# Altium footprint library LDO.PcbLib: 100 footprints (part 6 of 7)
Each footprint in its own frame and in the unit in brackets; x right, y up, seen from the top. Pads: shape width x height; smd on the part's side, far side on the other; paste and mask are expansions set on the pad; w line width, h text height; cw(c..) or ccw(c..) is an arc to the next point about the centre after c.
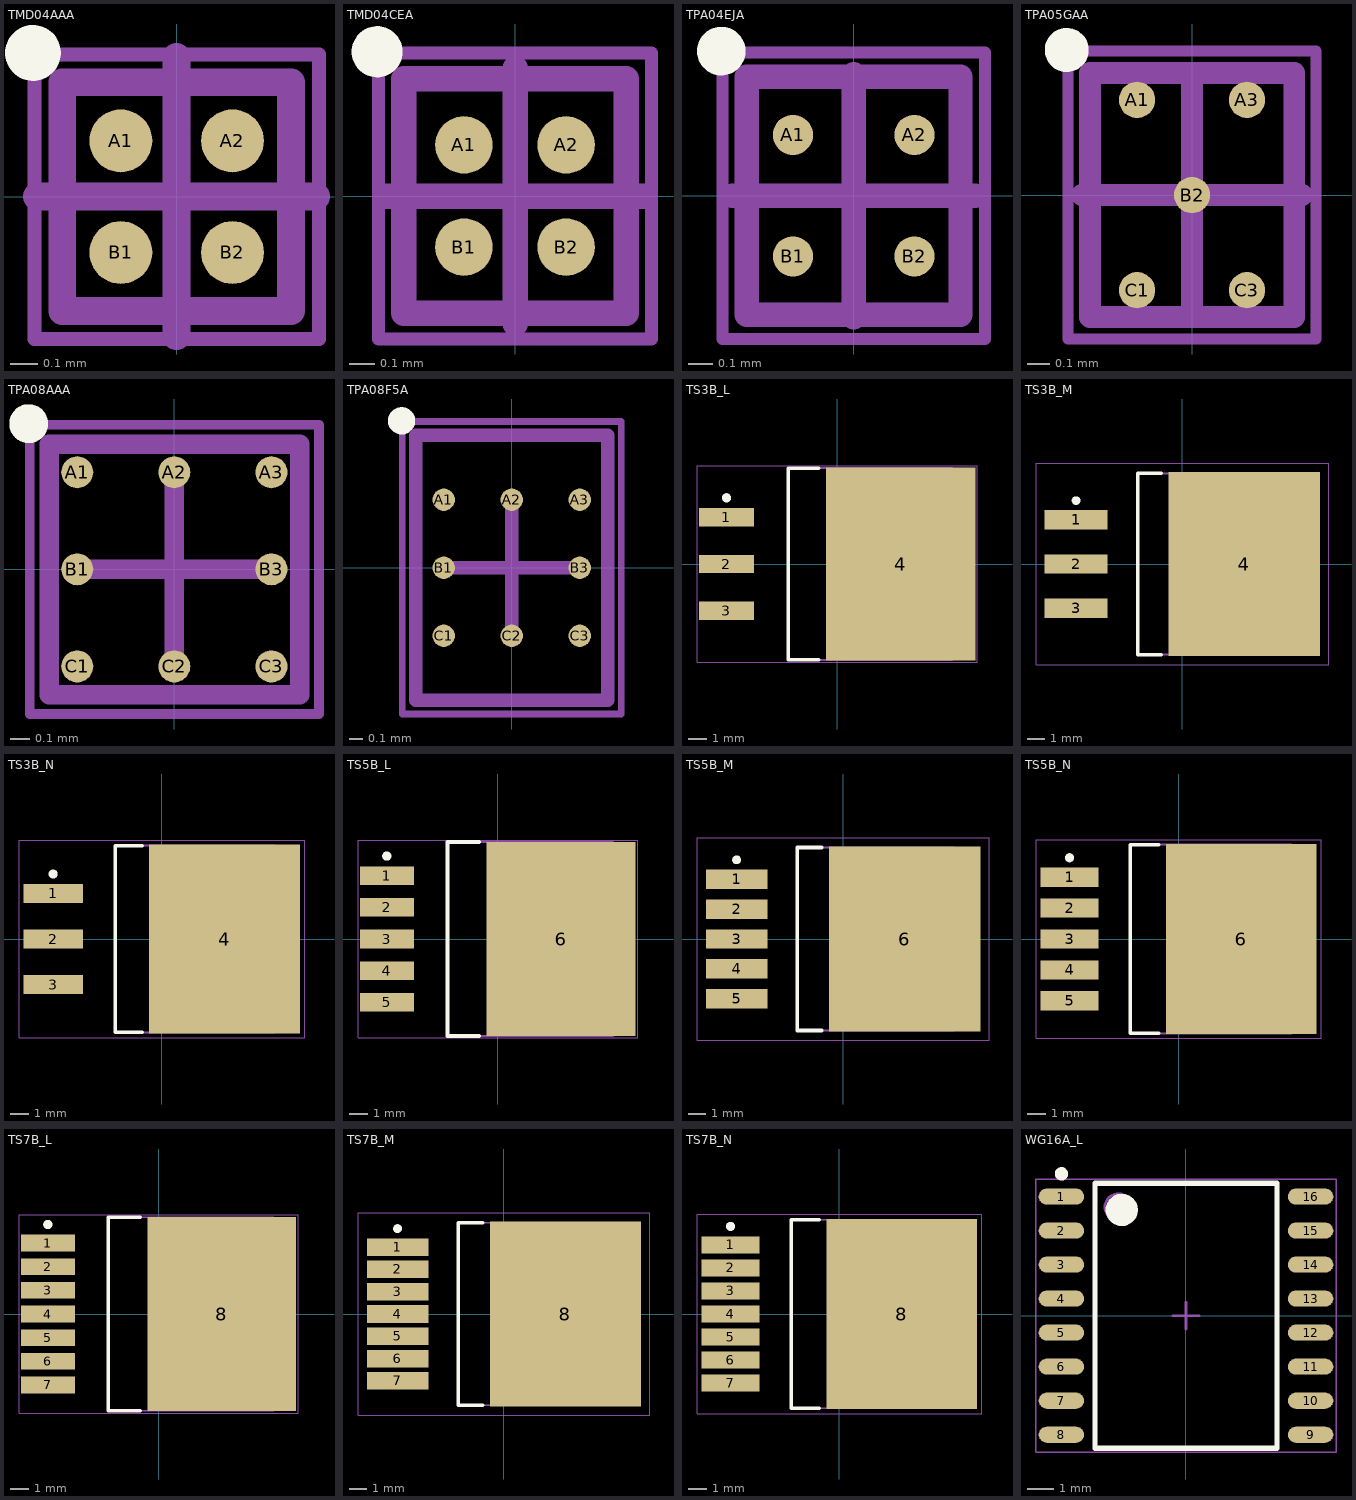
[diagram p5: the footprints below, top view; thin cyan lines are the x and y axes]

## TMD04AAA [mm] "Micro SMD, 4-Leads, Body 0.82x0.82mm, Pitch 0.4mm, NSC Recommended"
height 0.68
pads (4):
  round 0.225 smd paste-0.112 mask+0.05: A1(-0.2,0.2) A2(0.2,0.2) B1(-0.2,-0.2) B2(0.2,-0.2)
Top Overlay:
  circle w0.1: c-0.515,0.515 r0.05
Top Paste:
  circle w0.05: c-0.125,0.275 r0.025
  circle w0.05: c-0.275,0.125 r0.025
  circle w0.05: c-0.275,0.275 r0.025
  circle w0.05: c-0.125,0.125 r0.025
  circle w0.05: c0.275,0.275 r0.025
  circle w0.05: c0.125,0.125 r0.025
  circle w0.05: c0.125,0.275 r0.025
  circle w0.05: c0.275,0.125 r0.025
  circle w0.05: c-0.125,-0.125 r0.025
  circle w0.05: c-0.275,-0.275 r0.025
  circle w0.05: c-0.275,-0.125 r0.025
  circle w0.05: c-0.125,-0.275 r0.025
  circle w0.05: c0.275,-0.125 r0.025
  circle w0.05: c0.125,-0.275 r0.025
  circle w0.05: c0.125,-0.125 r0.025
  circle w0.05: c0.275,-0.275 r0.025
  rectangle: -0.275,0.075 -0.125,0.125
  region: -0.325,0.275 -0.325,0.125 -0.275,0.125 -0.275,0.275
  region: -0.125,0.325 -0.275,0.325 -0.275,0.275 -0.125,0.275
  region: -0.075,0.125 -0.075,0.275 -0.125,0.275 -0.125,0.125
  region: -0.275,0.275 -0.275,0.125 -0.125,0.125 -0.125,0.275
  rectangle: 0.125,0.075 0.275,0.125
  region: 0.075,0.275 0.075,0.125 0.125,0.125 0.125,0.275
  region: 0.275,0.325 0.125,0.325 0.125,0.275 0.275,0.275
  region: 0.325,0.125 0.325,0.275 0.275,0.275 0.275,0.125
  region: 0.125,0.275 0.125,0.125 0.275,0.125 0.275,0.275
  rectangle: -0.275,-0.325 -0.125,-0.275
  region: -0.325,-0.125 -0.325,-0.275 -0.275,-0.275 -0.275,-0.125
  region: -0.125,-0.075 -0.275,-0.075 -0.275,-0.125 -0.125,-0.125
  region: -0.075,-0.275 -0.075,-0.125 -0.125,-0.125 -0.125,-0.275
  region: -0.275,-0.125 -0.275,-0.275 -0.125,-0.275 -0.125,-0.125
  rectangle: 0.125,-0.325 0.275,-0.275
  region: 0.075,-0.125 0.075,-0.275 0.125,-0.275 0.125,-0.125
  region: 0.275,-0.075 0.125,-0.075 0.125,-0.125 0.275,-0.125
  region: 0.325,-0.275 0.325,-0.125 0.275,-0.125 0.275,-0.275
  region: 0.125,-0.125 0.125,-0.275 0.275,-0.275 0.275,-0.125
Mechanical 13:
  lines w0.1: -0.41,-0.41 -0.41,0.41 0.41,0.41 0.41,-0.41 -0.41,-0.41
Mechanical 15:
  lines w0.05: -0.51,-0.51 -0.51,0.51 0.51,0.51 0.51,-0.51 -0.51,-0.51
  lines w0.1: -0.5,0 0.5,0 ; 0,-0.5 0,0.5
3D body: height 0.68, standoff 0, extent -0.41,-0.41 0.41,0.41

## TMD04CEA [mm] "Micro SMD, 4-Leads, Body 0.92x0.87mm, Pitch 0.4mm, NSC Recommended"
height 0.68
pads (4):
  round 0.225 smd paste-0.112 mask+0.05: A1(-0.2,0.2) A2(0.2,0.2) B1(-0.2,-0.2) B2(0.2,-0.2)
Top Overlay:
  circle w0.1: c-0.54,0.565 r0.05
Top Paste:
  circle w0.05: c0.275,-0.275 r0.025
  circle w0.05: c0.125,-0.125 r0.025
  circle w0.05: c0.125,-0.275 r0.025
  circle w0.05: c0.275,-0.125 r0.025
  circle w0.05: c-0.125,-0.275 r0.025
  circle w0.05: c-0.275,-0.125 r0.025
  circle w0.05: c-0.275,-0.275 r0.025
  circle w0.05: c-0.125,-0.125 r0.025
  circle w0.05: c0.275,0.125 r0.025
  circle w0.05: c0.125,0.275 r0.025
  circle w0.05: c0.125,0.125 r0.025
  circle w0.05: c0.275,0.275 r0.025
  circle w0.05: c-0.125,0.125 r0.025
  circle w0.05: c-0.275,0.275 r0.025
  circle w0.05: c-0.275,0.125 r0.025
  circle w0.05: c-0.125,0.275 r0.025
  region: 0.125,-0.125 0.125,-0.275 0.275,-0.275 0.275,-0.125
  region: 0.325,-0.275 0.325,-0.125 0.275,-0.125 0.275,-0.275
  region: 0.275,-0.075 0.125,-0.075 0.125,-0.125 0.275,-0.125
  region: 0.075,-0.125 0.075,-0.275 0.125,-0.275 0.125,-0.125
  rectangle: 0.125,-0.325 0.275,-0.275
  region: -0.275,-0.125 -0.275,-0.275 -0.125,-0.275 -0.125,-0.125
  region: -0.075,-0.275 -0.075,-0.125 -0.125,-0.125 -0.125,-0.275
  region: -0.125,-0.075 -0.275,-0.075 -0.275,-0.125 -0.125,-0.125
  region: -0.325,-0.125 -0.325,-0.275 -0.275,-0.275 -0.275,-0.125
  rectangle: -0.275,-0.325 -0.125,-0.275
  region: 0.125,0.275 0.125,0.125 0.275,0.125 0.275,0.275
  region: 0.325,0.125 0.325,0.275 0.275,0.275 0.275,0.125
  region: 0.275,0.325 0.125,0.325 0.125,0.275 0.275,0.275
  region: 0.075,0.275 0.075,0.125 0.125,0.125 0.125,0.275
  rectangle: 0.125,0.075 0.275,0.125
  region: -0.275,0.275 -0.275,0.125 -0.125,0.125 -0.125,0.275
  region: -0.075,0.125 -0.075,0.275 -0.125,0.275 -0.125,0.125
  region: -0.125,0.325 -0.275,0.325 -0.275,0.275 -0.125,0.275
  region: -0.325,0.275 -0.325,0.125 -0.275,0.125 -0.275,0.275
  rectangle: -0.275,0.075 -0.125,0.125
Mechanical 13:
  lines w0.1: -0.435,-0.46 0.435,-0.46 0.435,0.46 -0.435,0.46 -0.435,-0.46
Mechanical 15:
  lines w0.05: -0.535,-0.56 0.535,-0.56 0.535,0.56 -0.535,0.56 -0.535,-0.56
  lines w0.1: -0.5,0 0.5,0 ; 0,-0.5 0,0.5
3D body: height 0.68, standoff 0, extent -0.435,-0.46 0.435,0.46

## TPA04EJA [mm] "Micro SMD, 4-Leads, Body 0.98x0.88mm, Pitch 0.5mm, NSC Recommended"
height 0.58
pads (4):
  round 0.165 smd paste-0.082 mask+0.05: A1(-0.25,0.25) A2(0.25,0.25) B1(-0.25,-0.25) B2(0.25,-0.25)
Top Overlay:
  circle w0.1: c-0.545,0.595 r0.05
Top Paste:
  circle w0.05: c0.15,-0.35 r0.025
  circle w0.05: c0.35,-0.15 r0.025
  circle w0.05: c0.15,-0.15 r0.025
  circle w0.05: c0.35,-0.35 r0.025
  circle w0.05: c-0.35,-0.35 r0.025
  circle w0.05: c-0.15,-0.15 r0.025
  circle w0.05: c-0.35,-0.15 r0.025
  circle w0.05: c-0.15,-0.35 r0.025
  circle w0.05: c0.15,0.15 r0.025
  circle w0.05: c0.35,0.35 r0.025
  circle w0.05: c0.15,0.35 r0.025
  circle w0.05: c0.35,0.15 r0.025
  circle w0.05: c-0.35,0.15 r0.025
  circle w0.05: c-0.15,0.35 r0.025
  circle w0.05: c-0.35,0.35 r0.025
  circle w0.05: c-0.15,0.15 r0.025
  region: 0.35,-0.35 0.15,-0.35 0.15,-0.4 0.35,-0.4
  rectangle: 0.15,-0.35 0.35,-0.15
  rectangle: 0.15,-0.15 0.35,-0.1
  region: 0.15,-0.35 0.15,-0.15 0.1,-0.15 0.1,-0.35
  region: 0.35,-0.15 0.35,-0.35 0.4,-0.35 0.4,-0.15
  region: -0.15,-0.35 -0.35,-0.35 -0.35,-0.4 -0.15,-0.4
  rectangle: -0.35,-0.35 -0.15,-0.15
  rectangle: -0.35,-0.15 -0.15,-0.1
  region: -0.35,-0.35 -0.35,-0.15 -0.4,-0.15 -0.4,-0.35
  region: -0.15,-0.15 -0.15,-0.35 -0.1,-0.35 -0.1,-0.15
  region: 0.35,0.15 0.15,0.15 0.15,0.1 0.35,0.1
  rectangle: 0.15,0.15 0.35,0.35
  rectangle: 0.15,0.35 0.35,0.4
  region: 0.15,0.15 0.15,0.35 0.1,0.35 0.1,0.15
  region: 0.35,0.35 0.35,0.15 0.4,0.15 0.4,0.35
  region: -0.15,0.15 -0.35,0.15 -0.35,0.1 -0.15,0.1
  rectangle: -0.35,0.15 -0.15,0.35
  rectangle: -0.35,0.35 -0.15,0.4
  region: -0.35,0.15 -0.35,0.35 -0.4,0.35 -0.4,0.15
  region: -0.15,0.35 -0.15,0.15 -0.1,0.15 -0.1,0.35
Mechanical 13:
  lines w0.1: -0.44,-0.49 0.44,-0.49 0.44,0.49 -0.44,0.49 -0.44,-0.49
Mechanical 15:
  lines w0.05: -0.54,-0.59 0.54,-0.59 0.54,0.59 -0.54,0.59 -0.54,-0.59
  lines w0.1: -0.5,0 0.5,0 ; 0,-0.5 0,0.5
3D body: height 0.58, standoff 0, extent -0.44,-0.49 0.44,0.49

## TPA05GAA [mm] "Micro SMD, 5-Leads, Body 1.11x0.93mm, Pitch 0.5mm, NSC Recommended"
height 0.58
pads (5):
  round 0.165 smd paste-0.082 mask+0.05: A1(-0.25,0.433) A3(0.25,0.433) B2(0,0) C1(-0.25,-0.433) C3(0.25,-0.433)
Top Overlay:
  circle w0.1: c-0.57,0.66 r0.05
Top Paste:
  circle w0.05: c-0.35,-0.533 r0.025
  circle w0.05: c-0.15,-0.333 r0.025
  circle w0.05: c-0.35,-0.333 r0.025
  circle w0.05: c-0.15,-0.533 r0.025
  circle w0.05: c0.15,-0.533 r0.025
  circle w0.05: c0.35,-0.333 r0.025
  circle w0.05: c0.15,-0.333 r0.025
  circle w0.05: c0.35,-0.533 r0.025
  circle w0.05: c-0.35,0.333 r0.025
  circle w0.05: c-0.15,0.533 r0.025
  circle w0.05: c-0.35,0.533 r0.025
  circle w0.05: c-0.15,0.333 r0.025
  circle w0.05: c0.15,0.333 r0.025
  circle w0.05: c0.35,0.533 r0.025
  circle w0.05: c0.15,0.533 r0.025
  circle w0.05: c0.35,0.333 r0.025
  circle w0.05: c-0.1,-0.1 r0.025
  circle w0.05: c0.1,0.1 r0.025
  circle w0.05: c-0.1,0.1 r0.025
  circle w0.05: c0.1,-0.1 r0.025
  region: -0.15,-0.533 -0.35,-0.533 -0.35,-0.583 -0.15,-0.583
  rectangle: -0.35,-0.533 -0.15,-0.333
  rectangle: -0.35,-0.333 -0.15,-0.283
  region: -0.35,-0.533 -0.35,-0.333 -0.4,-0.333 -0.4,-0.533
  region: -0.15,-0.333 -0.15,-0.533 -0.1,-0.533 -0.1,-0.333
  region: 0.35,-0.533 0.15,-0.533 0.15,-0.583 0.35,-0.583
  rectangle: 0.15,-0.533 0.35,-0.333
  rectangle: 0.15,-0.333 0.35,-0.283
  region: 0.15,-0.533 0.15,-0.333 0.1,-0.333 0.1,-0.533
  region: 0.35,-0.333 0.35,-0.533 0.4,-0.533 0.4,-0.333
  region: -0.15,0.333 -0.35,0.333 -0.35,0.283 -0.15,0.283
  rectangle: -0.35,0.333 -0.15,0.533
  rectangle: -0.35,0.533 -0.15,0.583
  region: -0.35,0.333 -0.35,0.533 -0.4,0.533 -0.4,0.333
  region: -0.15,0.533 -0.15,0.333 -0.1,0.333 -0.1,0.533
  region: 0.35,0.333 0.15,0.333 0.15,0.283 0.35,0.283
  rectangle: 0.15,0.333 0.35,0.533
  rectangle: 0.15,0.533 0.35,0.583
  region: 0.15,0.333 0.15,0.533 0.1,0.533 0.1,0.333
  region: 0.35,0.533 0.35,0.333 0.4,0.333 0.4,0.533
  region: 0.1,-0.1 -0.1,-0.1 -0.1,-0.15 0.1,-0.15
  rectangle: -0.1,-0.1 0.1,0.1
  rectangle: -0.1,0.1 0.1,0.15
  region: -0.1,-0.1 -0.1,0.1 -0.15,0.1 -0.15,-0.1
  region: 0.1,0.1 0.1,-0.1 0.15,-0.1 0.15,0.1
Mechanical 13:
  lines w0.1: -0.465,-0.555 0.465,-0.555 0.465,0.555 -0.465,0.555 -0.465,-0.555
Mechanical 15:
  lines w0.05: -0.565,-0.655 0.565,-0.655 0.565,0.655 -0.565,0.655 -0.565,-0.655
  lines w0.1: -0.5,0 0.5,0 ; 0,-0.5 0,0.5
3D body: height 0.58, standoff 0, extent -0.464,-0.554 0.464,0.554

## TPA08AAA [mm] "Micro SMD, 8-Leads, Body 1.29x1.29mm, Pitch 0.5mm, NSC Recommended"
height 0.58
pads (8):
  round 0.165 smd paste-0.082 mask+0.05: A1(-0.5,0.5) A2(0,0.5) A3(0.5,0.5) B1(-0.5,0) B3(0.5,0) C1(-0.5,-0.5) C2(0,-0.5) C3(0.5,-0.5)
Top Overlay:
  circle w0.1: c-0.75,0.75 r0.05
Top Paste:
  circle w0.05: c-0.4,0.4 r0.025
  circle w0.05: c-0.6,0.6 r0.025
  circle w0.05: c-0.4,0.6 r0.025
  circle w0.05: c-0.6,0.4 r0.025
  circle w0.05: c0.1,0.4 r0.025
  circle w0.05: c-0.1,0.6 r0.025
  circle w0.05: c0.1,0.6 r0.025
  circle w0.05: c-0.1,0.4 r0.025
  circle w0.05: c0.6,0.4 r0.025
  circle w0.05: c0.4,0.6 r0.025
  circle w0.05: c0.6,0.6 r0.025
  circle w0.05: c0.4,0.4 r0.025
  circle w0.05: c-0.4,-0.1 r0.025
  circle w0.05: c-0.6,0.1 r0.025
  circle w0.05: c-0.4,0.1 r0.025
  circle w0.05: c-0.6,-0.1 r0.025
  circle w0.05: c0.6,-0.1 r0.025
  circle w0.05: c0.4,0.1 r0.025
  circle w0.05: c0.6,0.1 r0.025
  circle w0.05: c0.4,-0.1 r0.025
  circle w0.05: c-0.4,-0.6 r0.025
  circle w0.05: c-0.6,-0.4 r0.025
  circle w0.05: c-0.4,-0.4 r0.025
  circle w0.05: c-0.6,-0.6 r0.025
  circle w0.05: c0.1,-0.6 r0.025
  circle w0.05: c-0.1,-0.4 r0.025
  circle w0.05: c0.1,-0.4 r0.025
  circle w0.05: c-0.1,-0.6 r0.025
  circle w0.05: c0.6,-0.6 r0.025
  circle w0.05: c0.4,-0.4 r0.025
  circle w0.05: c0.6,-0.4 r0.025
  circle w0.05: c0.4,-0.6 r0.025
  region: -0.4,0.6 -0.4,0.4 -0.35,0.4 -0.35,0.6
  region: -0.6,0.4 -0.6,0.6 -0.65,0.6 -0.65,0.4
  rectangle: -0.6,0.6 -0.4,0.65
  rectangle: -0.6,0.4 -0.4,0.6
  region: -0.4,0.4 -0.6,0.4 -0.6,0.35 -0.4,0.35
  region: 0.1,0.6 0.1,0.4 0.15,0.4 0.15,0.6
  region: -0.1,0.4 -0.1,0.6 -0.15,0.6 -0.15,0.4
  rectangle: -0.1,0.6 0.1,0.65
  rectangle: -0.1,0.4 0.1,0.6
  region: 0.1,0.4 -0.1,0.4 -0.1,0.35 0.1,0.35
  region: 0.6,0.6 0.6,0.4 0.65,0.4 0.65,0.6
  region: 0.4,0.4 0.4,0.6 0.35,0.6 0.35,0.4
  rectangle: 0.4,0.6 0.6,0.65
  rectangle: 0.4,0.4 0.6,0.6
  region: 0.6,0.4 0.4,0.4 0.4,0.35 0.6,0.35
  region: -0.4,0.1 -0.4,-0.1 -0.35,-0.1 -0.35,0.1
  region: -0.6,-0.1 -0.6,0.1 -0.65,0.1 -0.65,-0.1
  rectangle: -0.6,0.1 -0.4,0.15
  rectangle: -0.6,-0.1 -0.4,0.1
  region: -0.4,-0.1 -0.6,-0.1 -0.6,-0.15 -0.4,-0.15
  region: 0.6,0.1 0.6,-0.1 0.65,-0.1 0.65,0.1
  region: 0.4,-0.1 0.4,0.1 0.35,0.1 0.35,-0.1
  rectangle: 0.4,0.1 0.6,0.15
  rectangle: 0.4,-0.1 0.6,0.1
  region: 0.6,-0.1 0.4,-0.1 0.4,-0.15 0.6,-0.15
  region: -0.4,-0.4 -0.4,-0.6 -0.35,-0.6 -0.35,-0.4
  region: -0.6,-0.6 -0.6,-0.4 -0.65,-0.4 -0.65,-0.6
  rectangle: -0.6,-0.4 -0.4,-0.35
  rectangle: -0.6,-0.6 -0.4,-0.4
  region: -0.4,-0.6 -0.6,-0.6 -0.6,-0.65 -0.4,-0.65
  region: 0.1,-0.4 0.1,-0.6 0.15,-0.6 0.15,-0.4
  region: -0.1,-0.6 -0.1,-0.4 -0.15,-0.4 -0.15,-0.6
  rectangle: -0.1,-0.4 0.1,-0.35
  rectangle: -0.1,-0.6 0.1,-0.4
  region: 0.1,-0.6 -0.1,-0.6 -0.1,-0.65 0.1,-0.65
  region: 0.6,-0.4 0.6,-0.6 0.65,-0.6 0.65,-0.4
  region: 0.4,-0.6 0.4,-0.4 0.35,-0.4 0.35,-0.6
  rectangle: 0.4,-0.4 0.6,-0.35
  rectangle: 0.4,-0.6 0.6,-0.4
  region: 0.6,-0.6 0.4,-0.6 0.4,-0.65 0.6,-0.65
Mechanical 13:
  lines w0.1: -0.645,-0.645 -0.645,0.645 0.645,0.645 0.645,-0.645 -0.645,-0.645
Mechanical 15:
  lines w0.05: -0.745,-0.745 -0.745,0.745 0.745,0.745 0.745,-0.745 -0.745,-0.745
  lines w0.1: -0.5,0 0.5,0 ; 0,-0.5 0,0.5
3D body: height 0.58, standoff 0, extent -0.645,-0.645 0.645,0.645

## TPA08F5A [mm] "Micro SMD, 8-Leads, Body 1.95x1.41mm, Pitch 0.5mm, NSC Recommended"
height 0.58
pads (8):
  round 0.165 smd paste-0.082 mask+0.05: A1(-0.5,0.5) A2(0,0.5) A3(0.5,0.5) B1(-0.5,0) B3(0.5,0) C1(-0.5,-0.5) C2(0,-0.5) C3(0.5,-0.5)
Top Overlay:
  circle w0.1: c-0.81,1.08 r0.05
Top Paste:
  circle w0.05: c0.4,-0.6 r0.025
  circle w0.05: c0.6,-0.4 r0.025
  circle w0.05: c0.4,-0.4 r0.025
  circle w0.05: c0.6,-0.6 r0.025
  circle w0.05: c-0.1,-0.6 r0.025
  circle w0.05: c0.1,-0.4 r0.025
  circle w0.05: c-0.1,-0.4 r0.025
  circle w0.05: c0.1,-0.6 r0.025
  circle w0.05: c-0.6,-0.6 r0.025
  circle w0.05: c-0.4,-0.4 r0.025
  circle w0.05: c-0.6,-0.4 r0.025
  circle w0.05: c-0.4,-0.6 r0.025
  circle w0.05: c0.4,-0.1 r0.025
  circle w0.05: c0.6,0.1 r0.025
  circle w0.05: c0.4,0.1 r0.025
  circle w0.05: c0.6,-0.1 r0.025
  circle w0.05: c-0.6,-0.1 r0.025
  circle w0.05: c-0.4,0.1 r0.025
  circle w0.05: c-0.6,0.1 r0.025
  circle w0.05: c-0.4,-0.1 r0.025
  circle w0.05: c0.4,0.4 r0.025
  circle w0.05: c0.6,0.6 r0.025
  circle w0.05: c0.4,0.6 r0.025
  circle w0.05: c0.6,0.4 r0.025
  circle w0.05: c-0.1,0.4 r0.025
  circle w0.05: c0.1,0.6 r0.025
  circle w0.05: c-0.1,0.6 r0.025
  circle w0.05: c0.1,0.4 r0.025
  circle w0.05: c-0.6,0.4 r0.025
  circle w0.05: c-0.4,0.6 r0.025
  circle w0.05: c-0.6,0.6 r0.025
  circle w0.05: c-0.4,0.4 r0.025
  region: 0.6,-0.6 0.4,-0.6 0.4,-0.65 0.6,-0.65
  rectangle: 0.4,-0.6 0.6,-0.4
  rectangle: 0.4,-0.4 0.6,-0.35
  region: 0.4,-0.6 0.4,-0.4 0.35,-0.4 0.35,-0.6
  region: 0.6,-0.4 0.6,-0.6 0.65,-0.6 0.65,-0.4
  region: 0.1,-0.6 -0.1,-0.6 -0.1,-0.65 0.1,-0.65
  rectangle: -0.1,-0.6 0.1,-0.4
  rectangle: -0.1,-0.4 0.1,-0.35
  region: -0.1,-0.6 -0.1,-0.4 -0.15,-0.4 -0.15,-0.6
  region: 0.1,-0.4 0.1,-0.6 0.15,-0.6 0.15,-0.4
  region: -0.4,-0.6 -0.6,-0.6 -0.6,-0.65 -0.4,-0.65
  rectangle: -0.6,-0.6 -0.4,-0.4
  rectangle: -0.6,-0.4 -0.4,-0.35
  region: -0.6,-0.6 -0.6,-0.4 -0.65,-0.4 -0.65,-0.6
  region: -0.4,-0.4 -0.4,-0.6 -0.35,-0.6 -0.35,-0.4
  region: 0.6,-0.1 0.4,-0.1 0.4,-0.15 0.6,-0.15
  rectangle: 0.4,-0.1 0.6,0.1
  rectangle: 0.4,0.1 0.6,0.15
  region: 0.4,-0.1 0.4,0.1 0.35,0.1 0.35,-0.1
  region: 0.6,0.1 0.6,-0.1 0.65,-0.1 0.65,0.1
  region: -0.4,-0.1 -0.6,-0.1 -0.6,-0.15 -0.4,-0.15
  rectangle: -0.6,-0.1 -0.4,0.1
  rectangle: -0.6,0.1 -0.4,0.15
  region: -0.6,-0.1 -0.6,0.1 -0.65,0.1 -0.65,-0.1
  region: -0.4,0.1 -0.4,-0.1 -0.35,-0.1 -0.35,0.1
  region: 0.6,0.4 0.4,0.4 0.4,0.35 0.6,0.35
  rectangle: 0.4,0.4 0.6,0.6
  rectangle: 0.4,0.6 0.6,0.65
  region: 0.4,0.4 0.4,0.6 0.35,0.6 0.35,0.4
  region: 0.6,0.6 0.6,0.4 0.65,0.4 0.65,0.6
  region: 0.1,0.4 -0.1,0.4 -0.1,0.35 0.1,0.35
  rectangle: -0.1,0.4 0.1,0.6
  rectangle: -0.1,0.6 0.1,0.65
  region: -0.1,0.4 -0.1,0.6 -0.15,0.6 -0.15,0.4
  region: 0.1,0.6 0.1,0.4 0.15,0.4 0.15,0.6
  region: -0.4,0.4 -0.6,0.4 -0.6,0.35 -0.4,0.35
  rectangle: -0.6,0.4 -0.4,0.6
  rectangle: -0.6,0.6 -0.4,0.65
  region: -0.6,0.4 -0.6,0.6 -0.65,0.6 -0.65,0.4
  region: -0.4,0.6 -0.4,0.4 -0.35,0.4 -0.35,0.6
Mechanical 13:
  lines w0.1: -0.705,-0.975 0.705,-0.975 0.705,0.975 -0.705,0.975 -0.705,-0.975
Mechanical 15:
  lines w0.05: -0.805,-1.075 0.805,-1.075 0.805,1.075 -0.805,1.075 -0.805,-1.075
  lines w0.1: -0.5,0 0.5,0 ; 0,-0.5 0,0.5
3D body: height 0.58, standoff 0, extent -0.705,-0.975 0.705,0.975

## TS3B_L [mm] "D2-PAK, 4-Leads, Body 8.6x10.2mm, Pitch 2.54mm, Lead Span 14.2mm, IPC High Density"
height 4.64
pads (4):
  rect 3x1 smd: 1(-6,2.54) 2(-6,0) 3(-6,-2.54)
  rect 8.1x10.45 smd: 4(3.45,0)
Top Overlay:
  circle w0.25: c-6,3.59 r0.125
  lines w0.2: -1,-5.2 -2.65,-5.2 -2.65,5.2 -1,5.2
Mechanical 13:
  lines w0.1: -2.65,-5.2 6.24,-5.2 6.24,5.2 -2.65,5.2 -2.65,-5.2
Mechanical 15:
  lines w0.05: -7.6,-5.325 7.6,-5.325 7.6,5.325 -7.6,5.325 -7.6,-5.325
  lines w0.1: -0.5,0 0.5,0 ; 0,-0.5 0,0.5
3D body: height 4.64, standoff 0, extent -2.65,-5.2 6.24,5.2

## TS3B_M [mm] "D2-PAK, 4-Leads, Body 8.6x10.2mm, Pitch 2.54mm, Lead Span 14.2mm, IPC Low Density"
height 4.64
pads (4):
  rect 3.6x1.1 smd: 1(-6.1,2.54) 2(-6.1,0) 3(-6.1,-2.54)
  rect 8.7x10.55 smd: 4(3.55,0)
Top Overlay:
  circle w0.25: c-6.1,3.64 r0.125
  lines w0.2: -1.2,-5.2 -2.55,-5.2 -2.55,5.2 -1.2,5.2
Mechanical 13:
  lines w0.1: -2.55,-5.2 6.34,-5.2 6.34,5.2 -2.55,5.2 -2.55,-5.2
Mechanical 15:
  lines w0.05: -8.4,-5.775 8.4,-5.775 8.4,5.775 -8.4,5.775 -8.4,-5.775
  lines w0.1: -0.5,0 0.5,0 ; 0,-0.5 0,0.5
3D body: height 4.64, standoff 0, extent -2.55,-5.2 6.34,5.2

## TS3B_N [mm] "D2-PAK, 4-Leads, Body 8.6x10.2mm, Pitch 2.54mm, Lead Span 14.2mm, IPC Medium Density"
height 4.64
pads (4):
  rect 3.3x1.05 smd: 1(-6.05,2.54) 2(-6.05,0) 3(-6.05,-2.54)
  rect 8.4x10.5 smd: 4(3.5,0)
Top Overlay:
  circle w0.25: c-6.05,3.615 r0.125
  lines w0.2: -1.1,-5.2 -2.6,-5.2 -2.6,5.2 -1.1,5.2
Mechanical 13:
  lines w0.1: -2.6,-5.2 6.29,-5.2 6.29,5.2 -2.6,5.2 -2.6,-5.2
Mechanical 15:
  lines w0.05: -7.95,-5.5 7.95,-5.5 7.95,5.5 -7.95,5.5 -7.95,-5.5
  lines w0.1: -0.5,0 0.5,0 ; 0,-0.5 0,0.5
3D body: height 4.64, standoff 0, extent -2.6,-5.2 6.29,5.2

## TS5B_L [mm] "D2-PAK, 6-Leads, Body 8.6x10.2mm, Pitch 1.7mm, Lead Span 14.1mm, IPC High Density"
height 4.65
pads (6):
  rect 2.9x1 smd: 1(-5.95,3.4) 2(-5.95,1.7) 3(-5.95,0) 4(-5.95,-1.7) 5(-5.95,-3.4)
  rect 8x10.4 smd: 6(3.4,0)
Top Overlay:
  circle w0.25: c-5.95,4.45 r0.125
  lines w0.2: -1,-5.2 -2.7,-5.2 -2.7,5.2 -1,5.2
Mechanical 13:
  lines w0.1: -2.7,-5.2 6.19,-5.2 6.19,5.2 -2.7,5.2 -2.7,-5.2
Mechanical 15:
  lines w0.05: -7.5,-5.3 7.5,-5.3 7.5,5.3 -7.5,5.3 -7.5,-5.3
  lines w0.1: -0.5,0 0.5,0 ; 0,-0.5 0,0.5
3D body: height 4.65, standoff 0, extent -2.7,-5.2 6.19,5.2

## TS5B_M [mm] "D2-PAK, 6-Leads, Body 8.6x10.2mm, Pitch 1.7mm, Lead Span 14.1mm, IPC Low Density"
height 4.65
pads (6):
  rect 3.5x1.1 smd: 1(-6.05,3.4) 2(-6.05,1.7) 3(-6.05,0) 4(-6.05,-1.7) 5(-6.05,-3.4)
  rect 8.6x10.5 smd: 6(3.5,0)
Top Overlay:
  circle w0.25: c-6.05,4.5 r0.125
  lines w0.2: -1.2,-5.2 -2.6,-5.2 -2.6,5.2 -1.2,5.2
Mechanical 13:
  lines w0.1: -2.6,-5.2 6.29,-5.2 6.29,5.2 -2.6,5.2 -2.6,-5.2
Mechanical 15:
  lines w0.05: -8.3,-5.75 8.3,-5.75 8.3,5.75 -8.3,5.75 -8.3,-5.75
  lines w0.1: -0.5,0 0.5,0 ; 0,-0.5 0,0.5
3D body: height 4.65, standoff 0, extent -2.6,-5.2 6.29,5.2

## TS5B_N [mm] "D2-PAK, 6-Leads, Body 8.6x10.2mm, Pitch 1.7mm, Lead Span 14.1mm, IPC Medium Density"
height 4.65
pads (6):
  rect 3.2x1.05 smd: 1(-6,3.4) 2(-6,1.7) 3(-6,0) 4(-6,-1.7) 5(-6,-3.4)
  rect 8.3x10.45 smd: 6(3.45,0)
Top Overlay:
  circle w0.25: c-6,4.475 r0.125
  lines w0.2: -1.1,-5.2 -2.65,-5.2 -2.65,5.2 -1.1,5.2
Mechanical 13:
  lines w0.1: -2.65,-5.2 6.24,-5.2 6.24,5.2 -2.65,5.2 -2.65,-5.2
Mechanical 15:
  lines w0.05: -7.85,-5.475 7.85,-5.475 7.85,5.475 -7.85,5.475 -7.85,-5.475
  lines w0.1: -0.5,0 0.5,0 ; 0,-0.5 0,0.5
3D body: height 4.65, standoff 0, extent -2.65,-5.2 6.24,5.2

## TS7B_L [mm] "D2-PAK, 8-Leads, Body 8.6x10.2mm, Pitch 1.27mm, Lead Span 14.1mm, IPC High Density"
height 4.64
pads (8):
  rect 2.9x0.9 smd: 1(-5.95,3.81) 2(-5.95,2.54) 3(-5.95,1.27) 4(-5.95,0) 5(-5.95,-1.27) 6(-5.95,-2.54) 7(-5.95,-3.81)
  rect 8x10.45 smd: 8(3.4,0)
Top Overlay:
  circle w0.25: c-5.95,4.81 r0.125
  lines w0.2: -1,-5.2 -2.7,-5.2 -2.7,5.2 -1,5.2
Mechanical 13:
  lines w0.1: -2.7,-5.2 6.19,-5.2 6.19,5.2 -2.7,5.2 -2.7,-5.2
Mechanical 15:
  lines w0.05: -7.5,-5.325 7.5,-5.325 7.5,5.325 -7.5,5.325 -7.5,-5.325
  lines w0.1: -0.5,0 0.5,0 ; 0,-0.5 0,0.5
3D body: height 4.64, standoff 0, extent -2.7,-5.2 6.19,5.2

## TS7B_M [mm] "D2-PAK, 8-Leads, Body 8.6x10.2mm, Pitch 1.27mm, Lead Span 14.1mm, IPC Low Density"
height 4.64
pads (8):
  rect 3.5x1 smd: 1(-6.05,3.81) 2(-6.05,2.54) 3(-6.05,1.27) 4(-6.05,0) 5(-6.05,-1.27) 6(-6.05,-2.54) 7(-6.05,-3.81)
  rect 8.6x10.55 smd: 8(3.5,0)
Top Overlay:
  circle w0.25: c-6.05,4.86 r0.125
  lines w0.2: -1.2,-5.2 -2.6,-5.2 -2.6,5.2 -1.2,5.2
Mechanical 13:
  lines w0.1: -2.6,-5.2 6.29,-5.2 6.29,5.2 -2.6,5.2 -2.6,-5.2
Mechanical 15:
  lines w0.05: -8.3,-5.775 8.3,-5.775 8.3,5.775 -8.3,5.775 -8.3,-5.775
  lines w0.1: -0.5,0 0.5,0 ; 0,-0.5 0,0.5
3D body: height 4.64, standoff 0, extent -2.6,-5.2 6.29,5.2

## TS7B_N [mm] "D2-PAK, 8-Leads, Body 8.6x10.2mm, Pitch 1.27mm, Lead Span 14.1mm, IPC Medium Density"
height 4.64
pads (8):
  rect 3.2x0.95 smd: 1(-6,3.81) 2(-6,2.54) 3(-6,1.27) 4(-6,0) 5(-6,-1.27) 6(-6,-2.54) 7(-6,-3.81)
  rect 8.3x10.5 smd: 8(3.45,0)
Top Overlay:
  circle w0.25: c-6,4.835 r0.125
  lines w0.2: -1.1,-5.2 -2.65,-5.2 -2.65,5.2 -1.1,5.2
Mechanical 13:
  lines w0.1: -2.65,-5.2 6.24,-5.2 6.24,5.2 -2.65,5.2 -2.65,-5.2
Mechanical 15:
  lines w0.05: -7.85,-5.5 7.85,-5.5 7.85,5.5 -7.85,5.5 -7.85,-5.5
  lines w0.1: -0.5,0 0.5,0 ; 0,-0.5 0,0.5
3D body: height 4.64, standoff 0, extent -2.65,-5.2 6.24,5.2

## WG16A_L [mm] "CERPACK, 16-Leads, Body 9.9x6.5mm, Pitch 1.27mm, IPC High Density"
height 2.24
pads (16):
  oval 1.7x0.6 smd: 1(-4.65,4.445) 2(-4.65,3.175) 3(-4.65,1.905) 4(-4.65,0.635) 5(-4.65,-0.635) 6(-4.65,-1.905) 7(-4.65,-3.175) 8(-4.65,-4.445) 9(4.65,-4.445) 10(4.65,-3.175) 11(4.65,-1.905) 12(4.65,-0.635) 13(4.65,0.635) 14(4.65,1.905) 15(4.65,3.175) 16(4.65,4.445)
Top Overlay:
  circle w0.25: c-4.65,5.295 r0.125
  circle w0.6: c-2.4,3.95 r0.3
  lines w0.2: -3.4,-4.95 -3.4,4.95 3.4,4.95 3.4,-4.95 -3.4,-4.95
Mechanical 13:
  circle w0.1: c-2.525,4.055 r0.5
  lines w0.1: -3.425,-4.955 -3.425,4.955 3.425,4.955 3.425,-4.955 -3.425,-4.955
Mechanical 15:
  lines w0.05: -5.6,-5.1 -5.6,5.1 5.6,5.1 5.6,-5.1 -5.6,-5.1
  lines w0.1: -0.5,0 0.5,0 ; 0,-0.5 0,0.5
3D body: height 2.24, standoff 0.1, extent -3.425,-4.955 3.425,4.955